# Altium schematic symbol library MAX1793EUE33&plus_.SchLib: 2 symbols
Pins are listed as number, name and electrical type; pins without a type are passive.

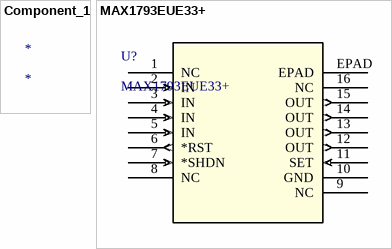
[diagram p0: symbols Component_1 to MAX1793EUE33+]

## Component_1
designator *

## MAX1793EUE33+
designator U?
No Description Available; Mfr_Name: Analog Devices Inc; Copyright: Copyright (C) 2023 Ultra Librarian. All rights reserved.; Manufacturer_Part_Number: MAX1793EUE33+; Digi-Key_Part_Number_1: MAX1793EUE33+-ND; RefDes: RefDes; Type: DEV
footprint 21-0108_U16E+3_MXM
pins: 1 NC, 2 IN (in), 3 IN (in), 4 IN (in), 5 IN (in), 6 *RST (out), 7 *SHDN (in), 8 NC, 9 NC, 10 GND (power), 11 SET (in), 12 OUT (out), 13 OUT (out), 14 OUT (out), 15 OUT (out), 16 NC, EPAD